# Altium schematic symbol library wsg1.0.SchLib: 16 symbols
Pins are listed as number, name and electrical type; pins without a type are passive.

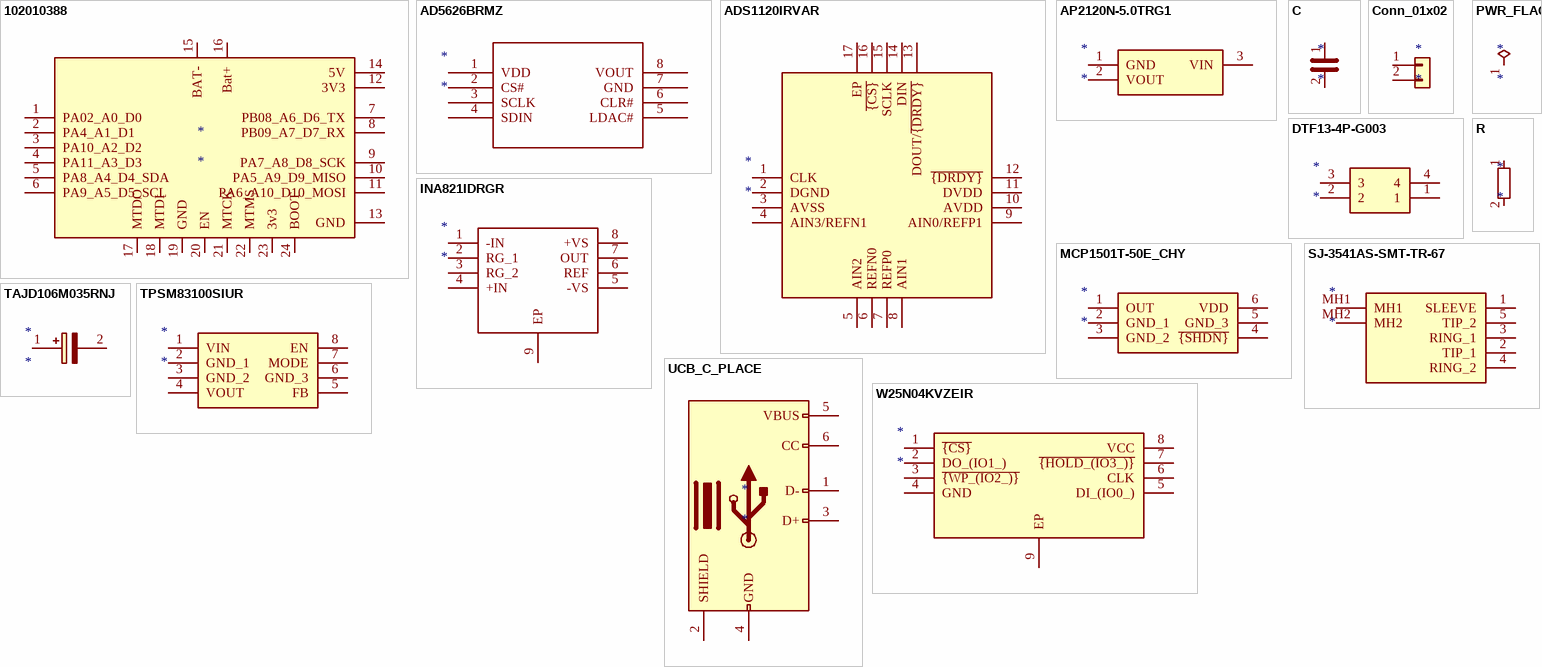
[diagram p0: symbols 102010388 to W25N04KVZEIR]

## 102010388
designator *
pins: 1 PA02_A0_D0, 2 PA4_A1_D1, 3 PA10_A2_D2, 4 PA11_A3_D3, 5 PA8_A4_D4_SDA, 6 PA9_A5_D5_SCL, 7 PB08_A6_D6_TX, 8 PB09_A7_D7_RX, 9 PA7_A8_D8_SCK, 10 PA5_A9_D9_MISO, 11 PA6_A10_D10_MOSI, 12 3V3, 13 GND, 14 5V, 15 BAT-, 16 Bat+, 17 MTDO, 18 MTDI, 19 GND, 20 EN, 21 MTCK, 22 MTMS, 23 3v3, 24 BOOT

## AD5626BRMZ
designator *
pins: 1 VDD, 2 CS#, 3 SCLK, 4 SDIN, 5 LDAC#, 6 CLR#, 7 GND, 8 VOUT

## ADS1120IRVAR
designator *
pins: 1 CLK, 2 DGND, 3 AVSS, 4 AIN3/REFN1, 5 AIN2, 6 REFN0, 7 REFP0, 8 AIN1, 9 AIN0/REFP1, 10 AVDD, 11 DVDD, 12 ~{{DRDY}}, 13 DOUT/~{{DRDY}}, 14 DIN, 15 SCLK, 16 ~{{CS}}, 17 EP

## AP2120N-5.0TRG1
designator *
pins: 1 GND, 2 VOUT, 3 VIN

## C
designator *
pins: 1, 2

## Conn_01x02
designator *
pins: 1 Pin_1, 2 Pin_2

## DTF13-4P-G003
designator *
pins: 1, 2, 3, 4

## INA821IDRGR
designator *
pins: 1 -IN, 2 RG_1, 3 RG_2, 4 +IN, 5 -VS, 6 REF, 7 OUT, 8 +VS, 9 EP

## MCP1501T-50E_CHY
designator *
pins: 1 OUT, 2 GND_1, 3 GND_2, 4 ~{{SHDN}}, 5 GND_3, 6 VDD

## PWR_FLAG
designator *  (graphical)
pins: 1 pwr

## R
designator *
pins: 1, 2

## SJ-3541AS-SMT-TR-67
designator *
pins: 1 SLEEVE, 2 TIP_1, 3 RING_1, 4 RING_2, 5 TIP_2, MH1, MH2

## TAJD106M035RNJ
designator *
pins: 1 +, 2 -

## TPSM83100SIUR
designator *
pins: 1 VIN, 2 GND_1, 3 GND_2, 4 VOUT, 5 FB, 6 GND_3, 7 MODE, 8 EN

## UCB_C_PLACE
designator *
pins: 1 D-, 2 SHIELD, 3 D+, 4 GND, 5 VBUS, 6 CC

## W25N04KVZEIR
designator *
pins: 1 ~{{CS}}, 2 DO_(IO1_), 3 ~{{WP_(IO2_)}}, 4 GND, 5 DI_(IO0_), 6 CLK, 7 ~{{HOLD_(IO3_)}}, 8 VCC, 9 EP